# Altium footprint library 60W开关电源.PcbLib: 15 footprints
Each footprint in its own frame and in the unit in brackets; x right, y up, seen from the top. Pads: shape width x height; smd on the part's side, far side on the other; paste and mask are expansions set on the pad; w line width, h text height; cw(c..) or ccw(c..) is an arc to the next point about the centre after c.
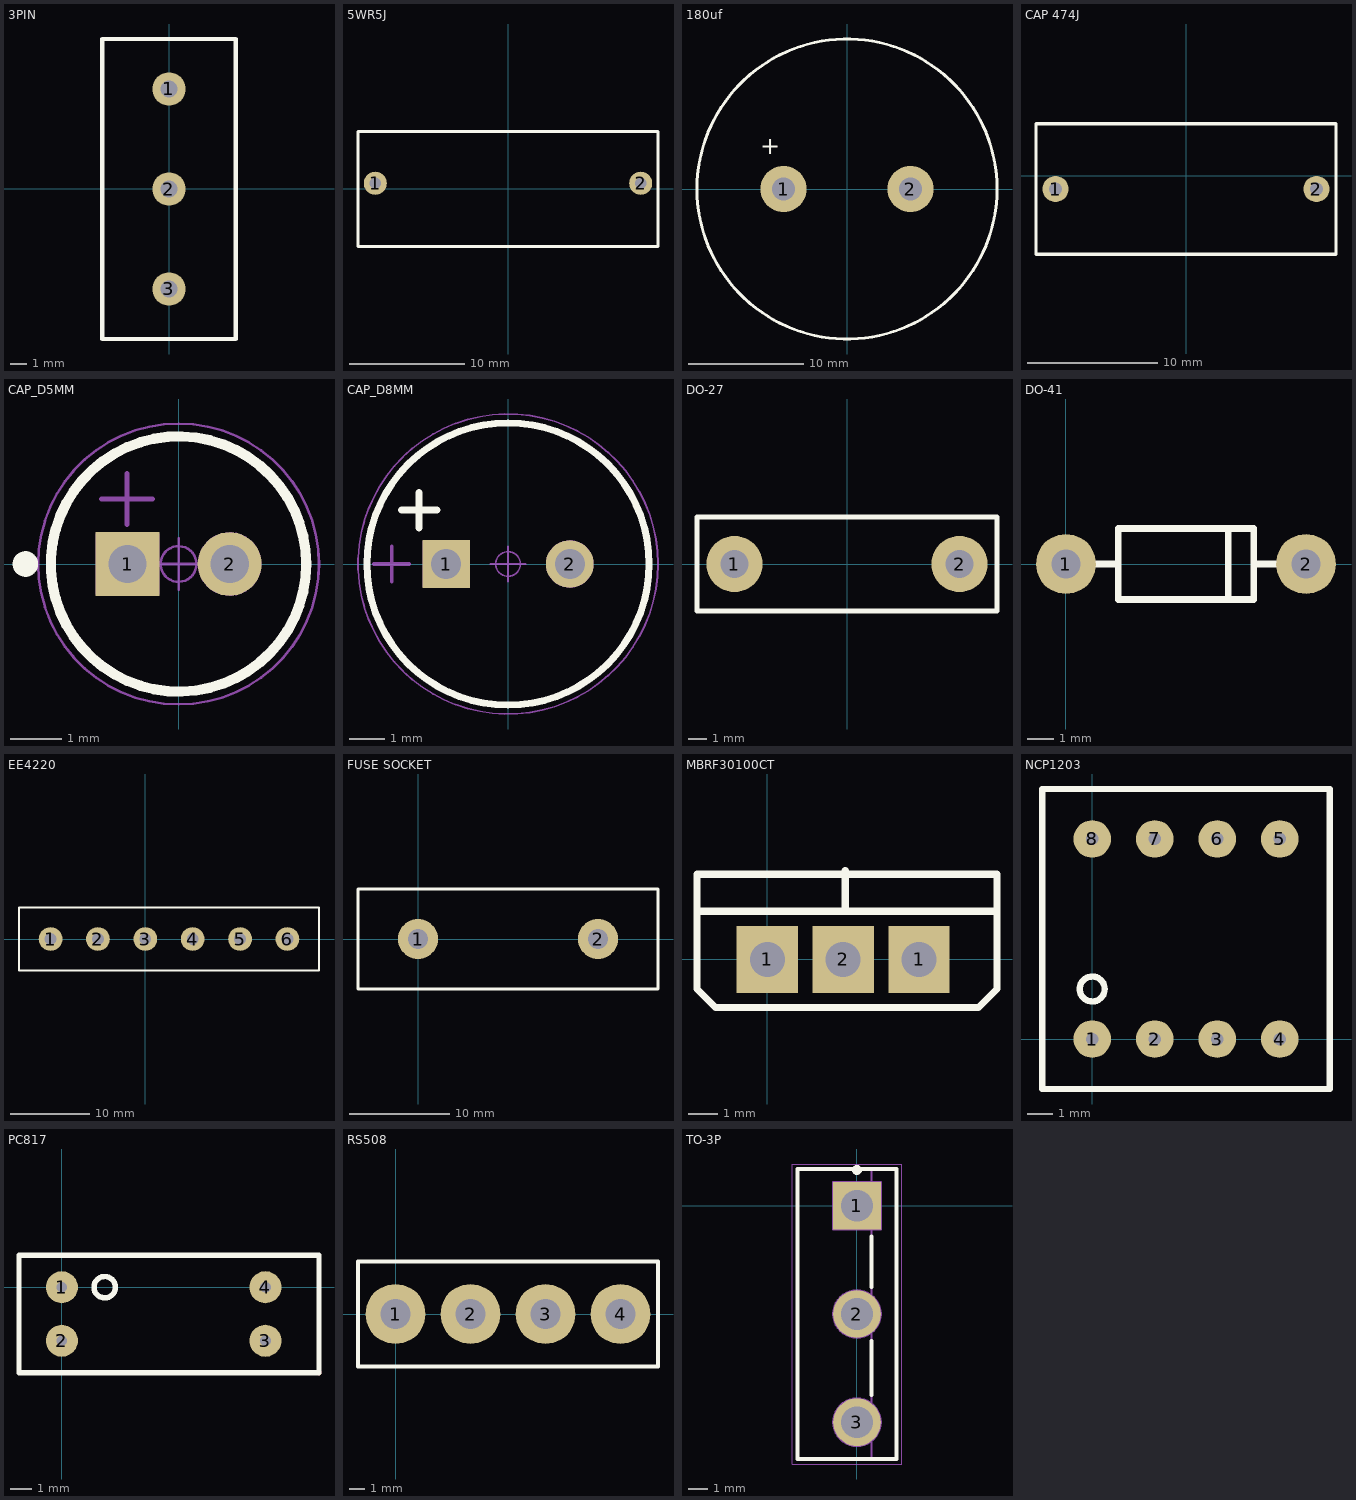
[diagram p0: the footprints below, top view; thin cyan lines are the x and y axes]

## 3PIN [mm]
pads (3):
  round 2 hole 1: 1(0,6) 2(0,0) 3(0,-6)
Top Overlay:
  lines w0.254: -4,-8.103 -4,9 4,9 4,-8.5 4,-9 -4,-9 -4,-8.5 -4,-8

## 5WR5J [mm]
pads (2):
  round 2 hole 1: 1(-11.5,0.5) 2(11.5,0.5)
Top Overlay:
  lines w0.254: -13,-5 13,-5 13,5 -13,5 -13,-5

## 180uf [mm]
pads (2):
  round 4 hole 2: 1(-5.5,0) 2(5.5,0)
Top Overlay:
  circle w0.254: c0,0 r13
  text "+" at -7.5,3 h1.52

## CAP 474J [mm]
pads (2):
  round 2 hole 1: 1(-10,-1) 2(10,-1)
Top Overlay:
  lines w0.254: -11.5,-6 -11.5,4 11.5,4 11.5,-6 -11.5,-6

## CAP_D5MM [mm]
pads (2):
  rect 1.25x1.25 hole 0.75: 1(-1,0)
  round 1.25 hole 0.75: 2(1,0)
Top Overlay:
  circle w0.2: c0,0 r2.5
  circle w0.25: c-3,0 r0.125
Mechanical 15:
  circle w0.1: c0,0 r2.5
  circle w0.1: c1,0 r0.575
  lines w0.1: -1.504,1.271 -0.511,1.271 ; -1.007,0.775 -1.007,1.768 ; -1.575,-0.575 -1.575,0.575 -0.425,0.575 -0.425,-0.575 -1.575,-0.575
Mechanical 16:
  circle w0.05: c0,0 r2.75
  circle w0.05: c0,0 r0.35
  circle w0.001: c0,0 r2.5
  circle w0.1: c1,0 r0.575
  lines w0.05: -0.5,0 0.5,0 ; 0,-0.5 0,0.5
  lines w0.1: -1.575,-0.575 -1.575,0.575 -0.425,0.575 -0.425,-0.575 -1.575,-0.575

## CAP_D8MM [mm]
pads (2):
  rect 1.35x1.35 hole 0.85: 1(-1.75,0)
  round 1.35 hole 0.85: 2(1.75,0)
Top Overlay:
  circle w0.2: c0,0 r4
  lines w0.2: -3.019,1.525 -2.019,1.525 ; -2.519,1.025 -2.519,2.025
Mechanical 15:
  circle w0.1: c0,0 r4
  circle w0.1: c1.75,0 r0.625
  lines w0.1: -3.8,0 -2.8,0 ; -3.3,-0.5 -3.3,0.5 ; -2.375,-0.625 -2.375,0.625 -1.125,0.625 -1.125,-0.625 -2.375,-0.625
Mechanical 16:
  circle w0.05: c0,0 r4.25
  circle w0.05: c0,0 r0.35
  circle w0.001: c0,0 r4
  circle w0.1: c1.75,0 r0.625
  lines w0.05: -0.5,0 0.5,0 ; 0,-0.5 0,0.5
  lines w0.1: -2.375,-0.625 -2.375,0.625 -1.125,0.625 -1.125,-0.625 -2.375,-0.625

## DO-27 [mm]
pads (2):
  round 3 hole 1.5: 1(-6,0) 2(6,0)
Top Overlay:
  lines w0.254: -8,-2.5 -8,2.5 8,2.5 8,-2.5 -8,-2.5

## DO-41 [mm]
pads (2):
  round 2.3 hole 1.1: 1(0,0) 2(9.2,0)
Top Overlay:
  lines w0.254: 0.635,0 2,0 ; 6.223,-1.36 6.223,1.36 ; 7.2,0 8.509,0 ; 2,-1.36 7.2,-1.36 7.2,1.36 2,1.36 2,-1.36

## EE4220 [mm]
pads (6):
  round 3 hole 1.5: 1(-12,0) 2(-6,0) 3(0,0) 4(6,0) 5(12,0) 6(18,0)
Top Overlay:
  lines w0.254: -16,-4 -16,4 22,4 22,-4 -16,-4

## FUSE SOCKET [mm]
pads (2):
  round 4 hole 2: 1(0,0) 2(18,0)
Top Overlay:
  lines w0.254: -6,-5 -6,5 24,5 24,-5 -6,-5

## MBRF30100CT [mm]
pads (3):
  rect 2.1x2.3 hole 1.2: 1(0,0) 1(5.2,0) 2(2.6,0)
Top Overlay:
  lines w0.254: -2.286,1.651 7.874,1.651 ; 2.667,1.778 2.667,3.048 ; -2.413,-1.016 -1.778,-1.651 7.239,-1.651 7.874,-1.016 7.874,2.921 -2.413,2.921 -2.413,-1.016

## NCP1203 [mm]
pads (8):
  round 1.5 hole 0.5: 1(0,0) 2(2.5,0) 3(5,0) 4(7.5,0) 5(7.5,8) 6(5,8) 7(2.5,8) 8(0,8)
Top Overlay:
  circle w0.254: c0,2 r0.5
  lines w0.254: -2,-2 -2,10 9.5,10 9.5,-2 -2,-2

## PC817 [mm]
pads (4):
  round 1.5 hole 0.5: 1(0,0) 2(0,-2.5) 3(9.5,-2.5) 4(9.5,0)
Top Layer:
  lines w0.254: 12,-4 12,-4
Top Overlay:
  circle w0.254: c2,0 r0.5
  lines w0.254: -2,-4 12,-4 12,1.5 -2,1.5 -2,-4

## RS508 [mm]
pads (4):
  round 4 hole 2: 1(0,0) 2(5,0) 3(10,0) 4(15,0)
Top Overlay:
  lines w0.254: -2.5,-3.5 -2.5,3.5 7.5,3.5 17.5,3.5 17.5,-3.5 -2.5,-3.5

## TO-3P [mm]
pads (3):
  rect 2.4x2.4 hole 1.6: 1(0,0)
  round 2.4 hole 1.6: 2(0,-5.45) 3(0,-10.9)
Top Overlay:
  circle w0.25: c0,1.8 r0.125
  lines w0.2: 0.73,-9.533 0.73,-6.817 ; 0.73,-4.083 0.73,-1.55 ; -3,-12.75 2,-12.75 2,1.85 -3,1.85 -3,-12.75
Mechanical 15:
  circle w0.1: c0,-5.45 r1.2
  circle w0.1: c0,-10.9 r1.2
  lines w0.1: 0.73,-12.75 0.73,1.85 ; -3,-12.75 2,-12.75 2,1.85 -3,1.85 -3,-12.75 ; -1.2,-1.2 -1.2,1.2 1.2,1.2 1.2,-1.2 -1.2,-1.2
Mechanical 16:
  circle w0.05: c0,0 r0.35
  lines w0.001: -3,-12.75 2,-12.75 2,1.85 -3,1.85 -3,-12.75
  lines w0.05: -0.5,0 0.5,0 ; 0,-0.5 0,0.5 ; -3.25,-13 2.25,-13 2.25,2.1 -3.25,2.1 -3.25,-13